# Altium footprint library PcbLib1.PcbLib: 12 footprints (part 1 of 3)
Each footprint in its own frame and in the unit in brackets; x right, y up, seen from the top. Pads: shape width x height; smd on the part's side, far side on the other; paste and mask are expansions set on the pad; w line width, h text height; cw(c..) or ccw(c..) is an arc to the next point about the centre after c.
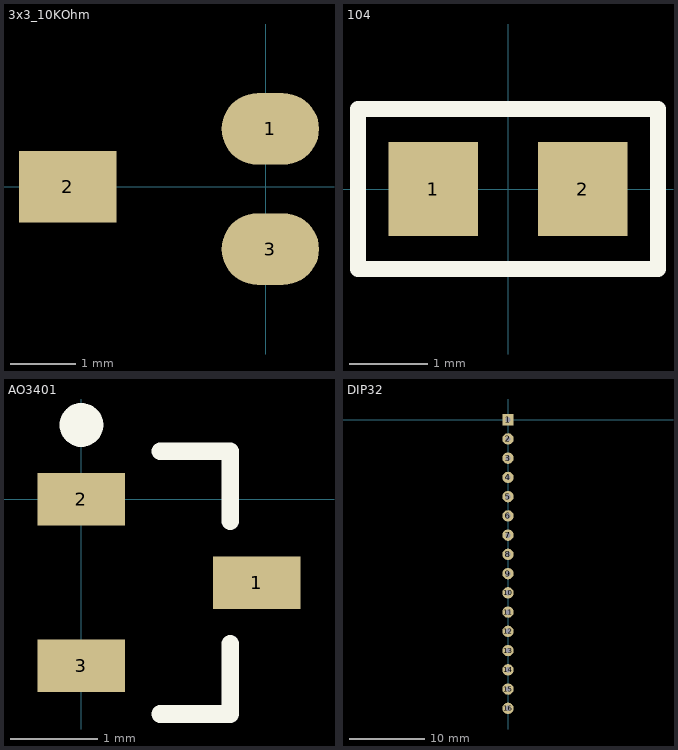
[diagram p0: the footprints below, top view; thin cyan lines are the x and y axes]

## 3x3_10KOhm [mm]
pads (3):
  oval 1.5x1.1 smd: 1(0.071,0.889) 3(0.071,-0.961)
  rect 1.5x1.1 smd: 2(-3.048,0)

## 104 [mm]
pads (2):
  rect 1.14x1.2 smd: 1(-0.95,0) 2(0.95,0)
Top Overlay:
  lines w0.2: -1.905,-1.016 1.905,-1.016 1.905,1.016 -1.905,1.016 -1.905,0 -1.905,-1.016

## AO3401 [mm]
pads (3):
  rect 1x0.6 smd: 1(2,-0.95) 2(0,0) 3(0,-1.9)
Top Overlay:
  circle w0.25: c0,0.85 r0.125
  lines w0.2: 0.9,-2.45 1.7,-2.45 1.7,-1.65 ; 0.9,0.55 1.7,0.55 1.7,-0.25

## DIP32 [mm]
pads (16):
  rect 1.5x1.5 hole 0.7: 1(0,0)
  round 1.5 hole 0.7: 2(0,-2.54) 3(0,-5.08) 4(0,-7.62) 5(0,-10.16) 6(0,-12.7) 7(0,-15.24) 8(0,-17.78) 9(0,-20.32) 10(0,-22.86) 11(0,-25.4) 12(0,-27.94) 13(0,-30.48) 14(0,-33.02) 15(0,-35.56) 16(0,-38.1)